# Altium schematic symbol library PJ-082BH.SchLib: 1 symbol
Pins are listed as number, name and electrical type; pins without a type are passive.

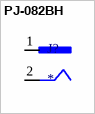
[diagram p0: symbol PJ-082BH]

## PJ-082BH
designator J?
2.5 mm Center Pin, 10 A, Right Angle, Through Hole, Shielded, Dc Power Jack Connector; MF: {'manufacturer': u'CUI Devices'}; MP: PJ-082BH; Value: *; Availability: Unavailable; Price: None; Package: None
footprint CUI_PJ-082BH
pins: 1, 2